# Altium integrated library Infineon_Microcontroller.IntLib: 721 symbols (part 9 of 66)
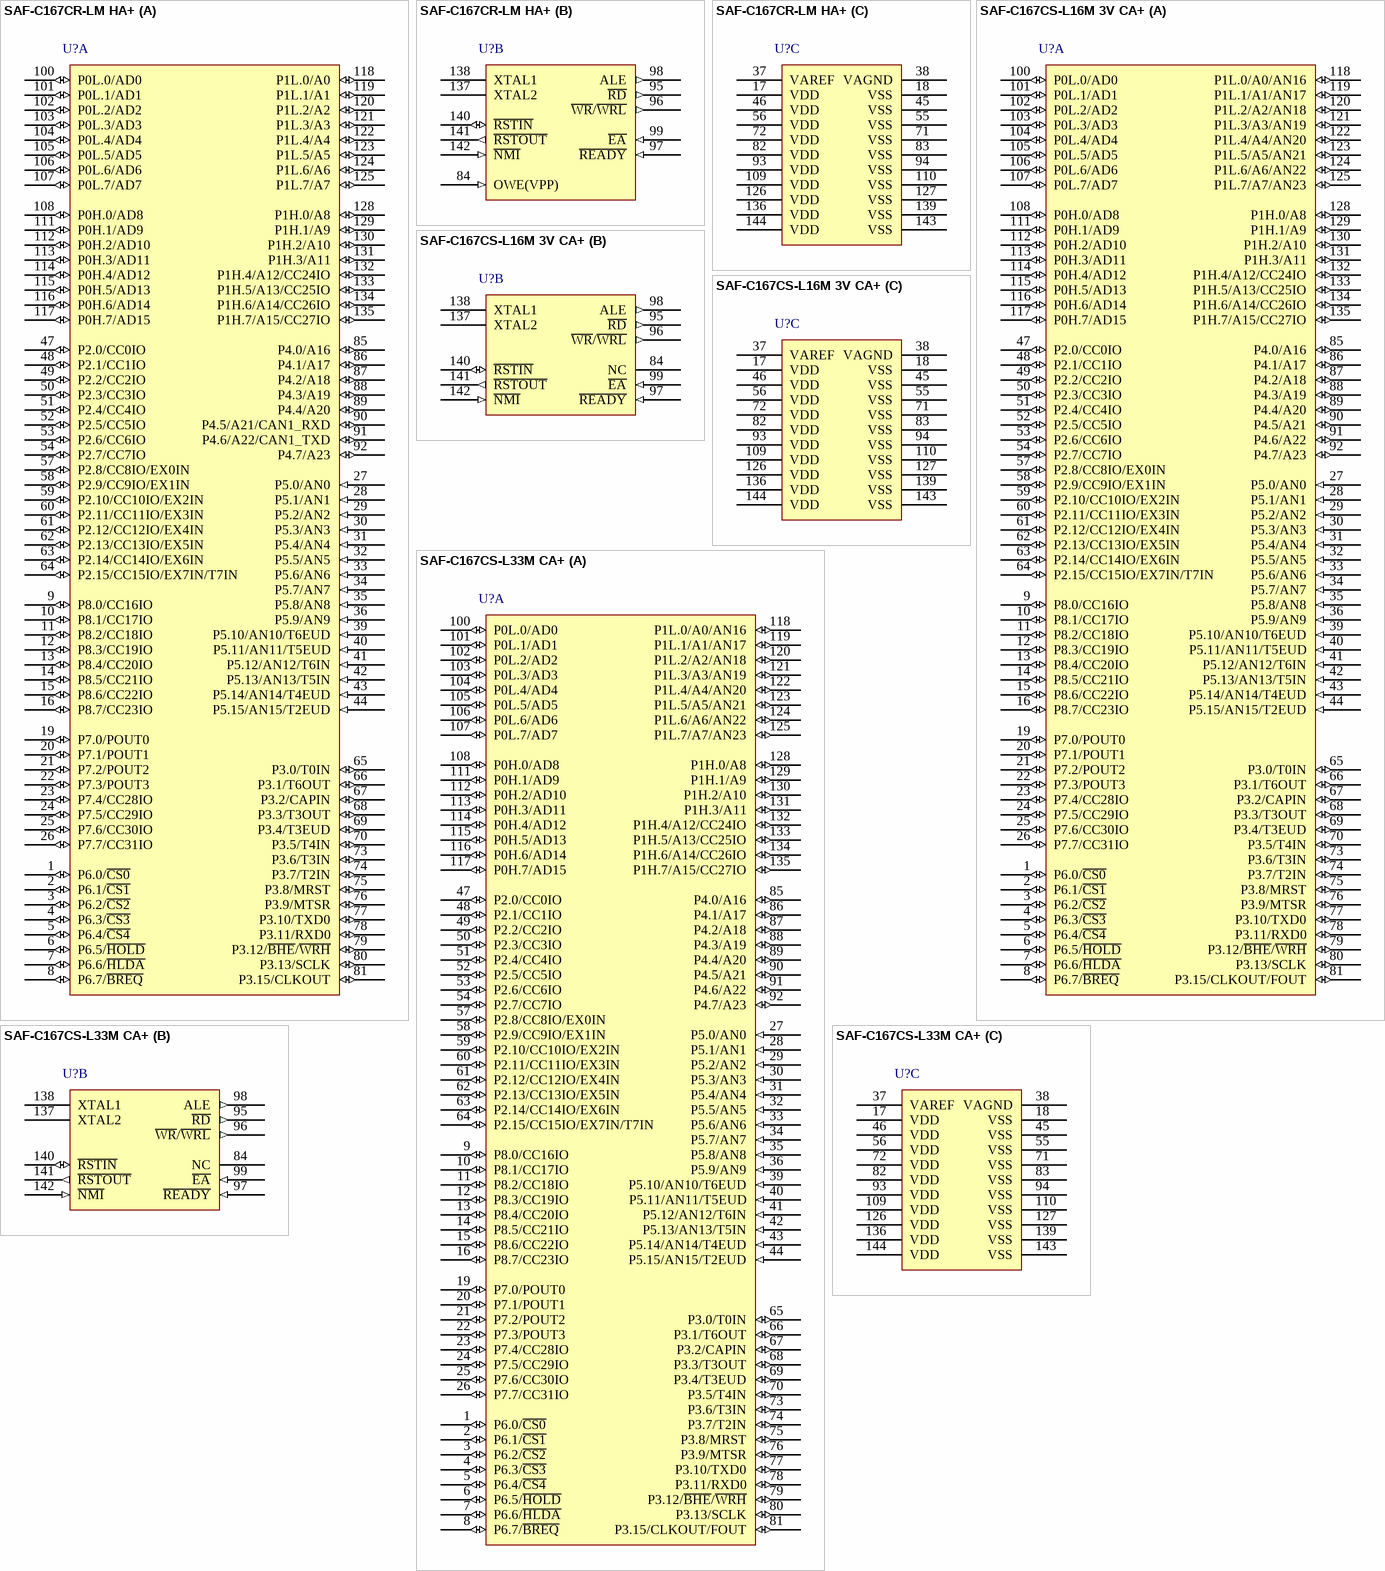
[diagram p126: symbols SAF-C167CR-LM HA+ to SAF-C167CS-L33M CA+]

## SAF-C167CS-L33M CA+
designator U?
33 MHz C166 MCU without Program Memory, 11 KByte SRAM, 5 V, -40 to 85 degC, PG-MQFP-144, Reel, Green; Manufacturer: Infineon; PartNumber: SAF-C167CS-L33M CA+; A / D input lines (incl. FADC): 24; CAN Nodes: 2; Digital I/O Lines: 111; DMA Channels: 0; DSP functionality (e.g MDU/MAC): TRUE; I/O Operation Voltages: 5 V; Instruction width [bits]: 16; Max Clock Frequency: 33 MHz; Number of ADC Modules: 1; Power Modes: 3; Real Time Clock (RTC): FALSE; Timed I/O Pins (PWM-Ch,CAPCOM): 36; Timer / Counter: 9; Type of Memory: ROM less; Type of Serial I/O Interfaces: USART(1), SSC(1); DatasheetVersion: Rev. 2.2; PackageVersion: V2.2, 08/2001; PackageReference: P-MQFP-144-6; PackageDescription: 144-Pin Plastic Metric Quad Flat Package, Body 28 x 28 mm, Pitch 0.65 mm; Supplier 1: Digi-Key; Supplier Part Number 1: SAF-C167CS-L33M CA+-ND; External Bus interface: TRUE; Green: TRUE; Halogen-free: TRUE; Oscillator Watchdog: TRUE; Packing: Reel; Serial I/O Interfaces: 2; SRAM (incl. Cache): 11 KByte; Watchdog Timer: TRUE; Mounting Technology: Surface Mount; ComponentLink1Description: Manufacturer URL; ComponentLink1URL: http://www.infineon.com/; ComponentLink2Description: Datasheet; ComponentLink2URL: http://www.infineon.com/dgdl/c167cs4r_ds_v2.2_2001_08.pdf?folderId=db3a304412b407950112b408e8c90004&fileId=db3a304412b407950112b435a34b634c; ComponentLink3Description: Package Specification; ComponentLink3URL: http://www.infineon.com/dgdl/c167cs4r_ds_v2.2_2001_08.pdf?folderId=db3a304412b407950112b408e8c90004&fileId=db3a304412b407950112b435a34b634c
footprint INF-P-MQFP-144-6_N (QFP, 144-Leads, Body 28x28mm, Pitch 0.65mm, IPC Medium Density)
footprint INF-P-MQFP-144-6_L (QFP, 144-Leads, Body 28x28mm, Pitch 0.65mm, IPC High Density)
footprint INF-P-MQFP-144-6_M (QFP, 144-Leads, Body 28x28mm, Pitch 0.65mm, IPC Low Density)
part A pins: 1 P6.0/~{CS0} (io), 2 P6.1/~{CS1} (io), 3 P6.2/~{CS2} (io), 4 P6.3/~{CS3} (io), 5 P6.4/~{CS4} (io), 6 P6.5/~{HOLD} (io), 7 P6.6/~{HLDA} (io), 8 P6.7/~{BREQ} (io), 9 P8.0/CC16IO (io), 10 P8.1/CC17IO (io), 11 P8.2/CC18IO (io), 12 P8.3/CC19IO (io), 13 P8.4/CC20IO (io), 14 P8.5/CC21IO (io), 15 P8.6/CC22IO (io), 16 P8.7/CC23IO (io), 19 P7.0/POUT0 (io), 20 P7.1/POUT1 (io), 21 P7.2/POUT2 (io), 22 P7.3/POUT3 (io), 23 P7.4/CC28IO (io), 24 P7.5/CC29IO (io), 25 P7.6/CC30IO (io), 26 P7.7/CC31IO (io), 27 P5.0/AN0 (in), 28 P5.1/AN1 (in), 29 P5.2/AN2 (in), 30 P5.3/AN3 (in), 31 P5.4/AN4 (in), 32 P5.5/AN5 (in), 33 P5.6/AN6 (in), 34 P5.7/AN7 (in), 35 P5.8/AN8 (in), 36 P5.9/AN9 (in), 39 P5.10/AN10/T6EUD (in), 40 P5.11/AN11/T5EUD (in), 41 P5.12/AN12/T6IN (in), 42 P5.13/AN13/T5IN (in), 43 P5.14/AN14/T4EUD (in), 44 P5.15/AN15/T2EUD (in), 47 P2.0/CC0IO (io), 48 P2.1/CC1IO (io), 49 P2.2/CC2IO (io), 50 P2.3/CC3IO (io), 51 P2.4/CC4IO (io), 52 P2.5/CC5IO (io), 53 P2.6/CC6IO (io), 54 P2.7/CC7IO (io), 57 P2.8/CC8IO/EX0IN (io), 58 P2.9/CC9IO/EX1IN (io), 59 P2.10/CC10IO/EX2IN (io), 60 P2.11/CC11IO/EX3IN (io), 61 P2.12/CC12IO/EX4IN (io), 62 P2.13/CC13IO/EX5IN (io), 63 P2.14/CC14IO/EX6IN (io), 64 P2.15/CC15IO/EX7IN/T7IN (io), 65 P3.0/T0IN (io), 66 P3.1/T6OUT (io), 67 P3.2/CAPIN (io), 68 P3.3/T3OUT (io), 69 P3.4/T3EUD (io), 70 P3.5/T4IN (io), 73 P3.6/T3IN (io), 74 P3.7/T2IN (io), 75 P3.8/MRST (io), 76 P3.9/MTSR (io), 77 P3.10/TXD0 (io), 78 P3.11/RXD0 (io), 79 P3.12/~{BHE}/~{WRH} (io), 80 P3.13/SCLK (io), 81 P3.15/CLKOUT/FOUT (io), 85 P4.0/A16 (io), 86 P4.1/A17 (io), 87 P4.2/A18 (io), 88 P4.3/A19 (io), 89 P4.4/A20 (io), 90 P4.5/A21 (io), 91 P4.6/A22 (io), 92 P4.7/A23 (io), 100 P0L.0/AD0 (io), 101 P0L.1/AD1 (io), 102 P0L.2/AD2 (io), 103 P0L.3/AD3 (io), 104 P0L.4/AD4 (io), 105 P0L.5/AD5 (io), 106 P0L.6/AD6 (io), 107 P0L.7/AD7 (io), 108 P0H.0/AD8 (io), 111 P0H.1/AD9 (io), 112 P0H.2/AD10 (io), 113 P0H.3/AD11 (io), 114 P0H.4/AD12 (io), 115 P0H.5/AD13 (io), 116 P0H.6/AD14 (io), 117 P0H.7/AD15 (io), 118 P1L.0/A0/AN16 (io), 119 P1L.1/A1/AN17 (io), 120 P1L.2/A2/AN18 (io), 121 P1L.3/A3/AN19 (io), 122 P1L.4/A4/AN20 (io), 123 P1L.5/A5/AN21 (io), 124 P1L.6/A6/AN22 (io), 125 P1L.7/A7/AN23 (io), 128 P1H.0/A8 (io), 129 P1H.1/A9 (io), 130 P1H.2/A10 (io), 131 P1H.3/A11 (io), 132 P1H.4/A12/CC24IO (io), 133 P1H.5/A13/CC25IO (io), 134 P1H.6/A14/CC26IO (io), 135 P1H.7/A15/CC27IO (io)
part B pins: 84 NC "This pin is not connected in the C167CS. No connection to the PCB is required.", 95 ~{RD} (out) "External Memory Read Strobe. R\D\ is activated for every external instruction or data read access.", 96 ~{WR}/~{WRL} (out) "External Memory Write Strobe. In W\R\-mode this pin is activated for every external data write access. In W\R\L\-mode this pin is activated for low byte data write accesses on a 16-bit bus, and for every data write access on (See Datasheet)", 97 ~{READY} (in) "Ready Input. When the Ready function is enabled, a high level at this pin during an external memory access will force the insertion of memory cycle time waitstates until the pin returns to a low level. An internal pullup (See Datasheet)", 98 ALE (out) "Address Latch Enable Output. Can be used for latching the address into external memory or an address latch in the multiplexed bus modes.", 99 ~{EA} (in) "External Access Enable pin. A low level at this pin during and after Reset forces the C167CS to begin instruction execution out of external memory. A high level forces execution out of the internal program memory. (See Datasheet)", 137 XTAL2 "Output of the oscillator amplifier circuit.", 138 XTAL1 "Input to the oscillator amplifier and input to the internal clock generator", 140 ~{RSTIN} (io) "Reset Input with Schmitt-Trigger characteristics. A low level at this pin while the oscillator is running resets the C167CS. An internal pullup resistor permits power-on reset using only a capacitor connected to VSS. A spike (See Datasheet)", 141 ~{RSTOUT} (out) "Internal Reset Indication Output. This pin is set to a low level when the part is executing either a hardware-, a software- or a watchdog timer reset. R\S\T\O\U\T\ remains low until the EINIT (end of initialization) (See Datasheet)", 142 ~{NMI} (in) "Non-Maskable Interrupt Input. A high to low transition at this pin causes the CPU to vector to the NMI trap routine. When the PWRDN (power down) instruction is executed, the N\M\I\ pin must be low in order to force the (See Datasheet)"
part C pins: 17 VDD (power) "Digital Supply Voltage: +5 V during normal operation and idle mode. >=2.5 V during power down mode.", 18 VSS (power) "Digital Ground.", 37 VAREF (power) "Reference voltage for the A/D converter.", 38 VAGND (power) "Reference ground for the A/D converter.", 45 VSS (power) "Digital Ground.", 46 VDD (power) "Digital Supply Voltage: +5 V during normal operation and idle mode. >=2.5 V during power down mode.", 55 VSS (power) "Digital Ground.", 56 VDD (power) "Digital Supply Voltage: +5 V during normal operation and idle mode. >=2.5 V during power down mode.", 71 VSS (power) "Digital Ground.", 72 VDD (power) "Digital Supply Voltage: +5 V during normal operation and idle mode. >=2.5 V during power down mode.", 82 VDD (power) "Digital Supply Voltage: +5 V during normal operation and idle mode. >=2.5 V during power down mode.", 83 VSS (power) "Digital Ground.", 93 VDD (power) "Digital Supply Voltage: +5 V during normal operation and idle mode. >=2.5 V during power down mode.", 94 VSS (power) "Digital Ground.", 109 VDD (power) "Digital Supply Voltage: +5 V during normal operation and idle mode. >=2.5 V during power down mode.", 110 VSS (power) "Digital Ground.", 126 VDD (power) "Digital Supply Voltage: +5 V during normal operation and idle mode. >=2.5 V during power down mode.", 127 VSS (power) "Digital Ground.", 136 VDD (power) "Digital Supply Voltage: +5 V during normal operation and idle mode. >=2.5 V during power down mode.", 139 VSS (power) "Digital Ground.", 143 VSS (power) "Digital Ground.", 144 VDD (power) "Digital Supply Voltage: +5 V during normal operation and idle mode. >=2.5 V during power down mode."

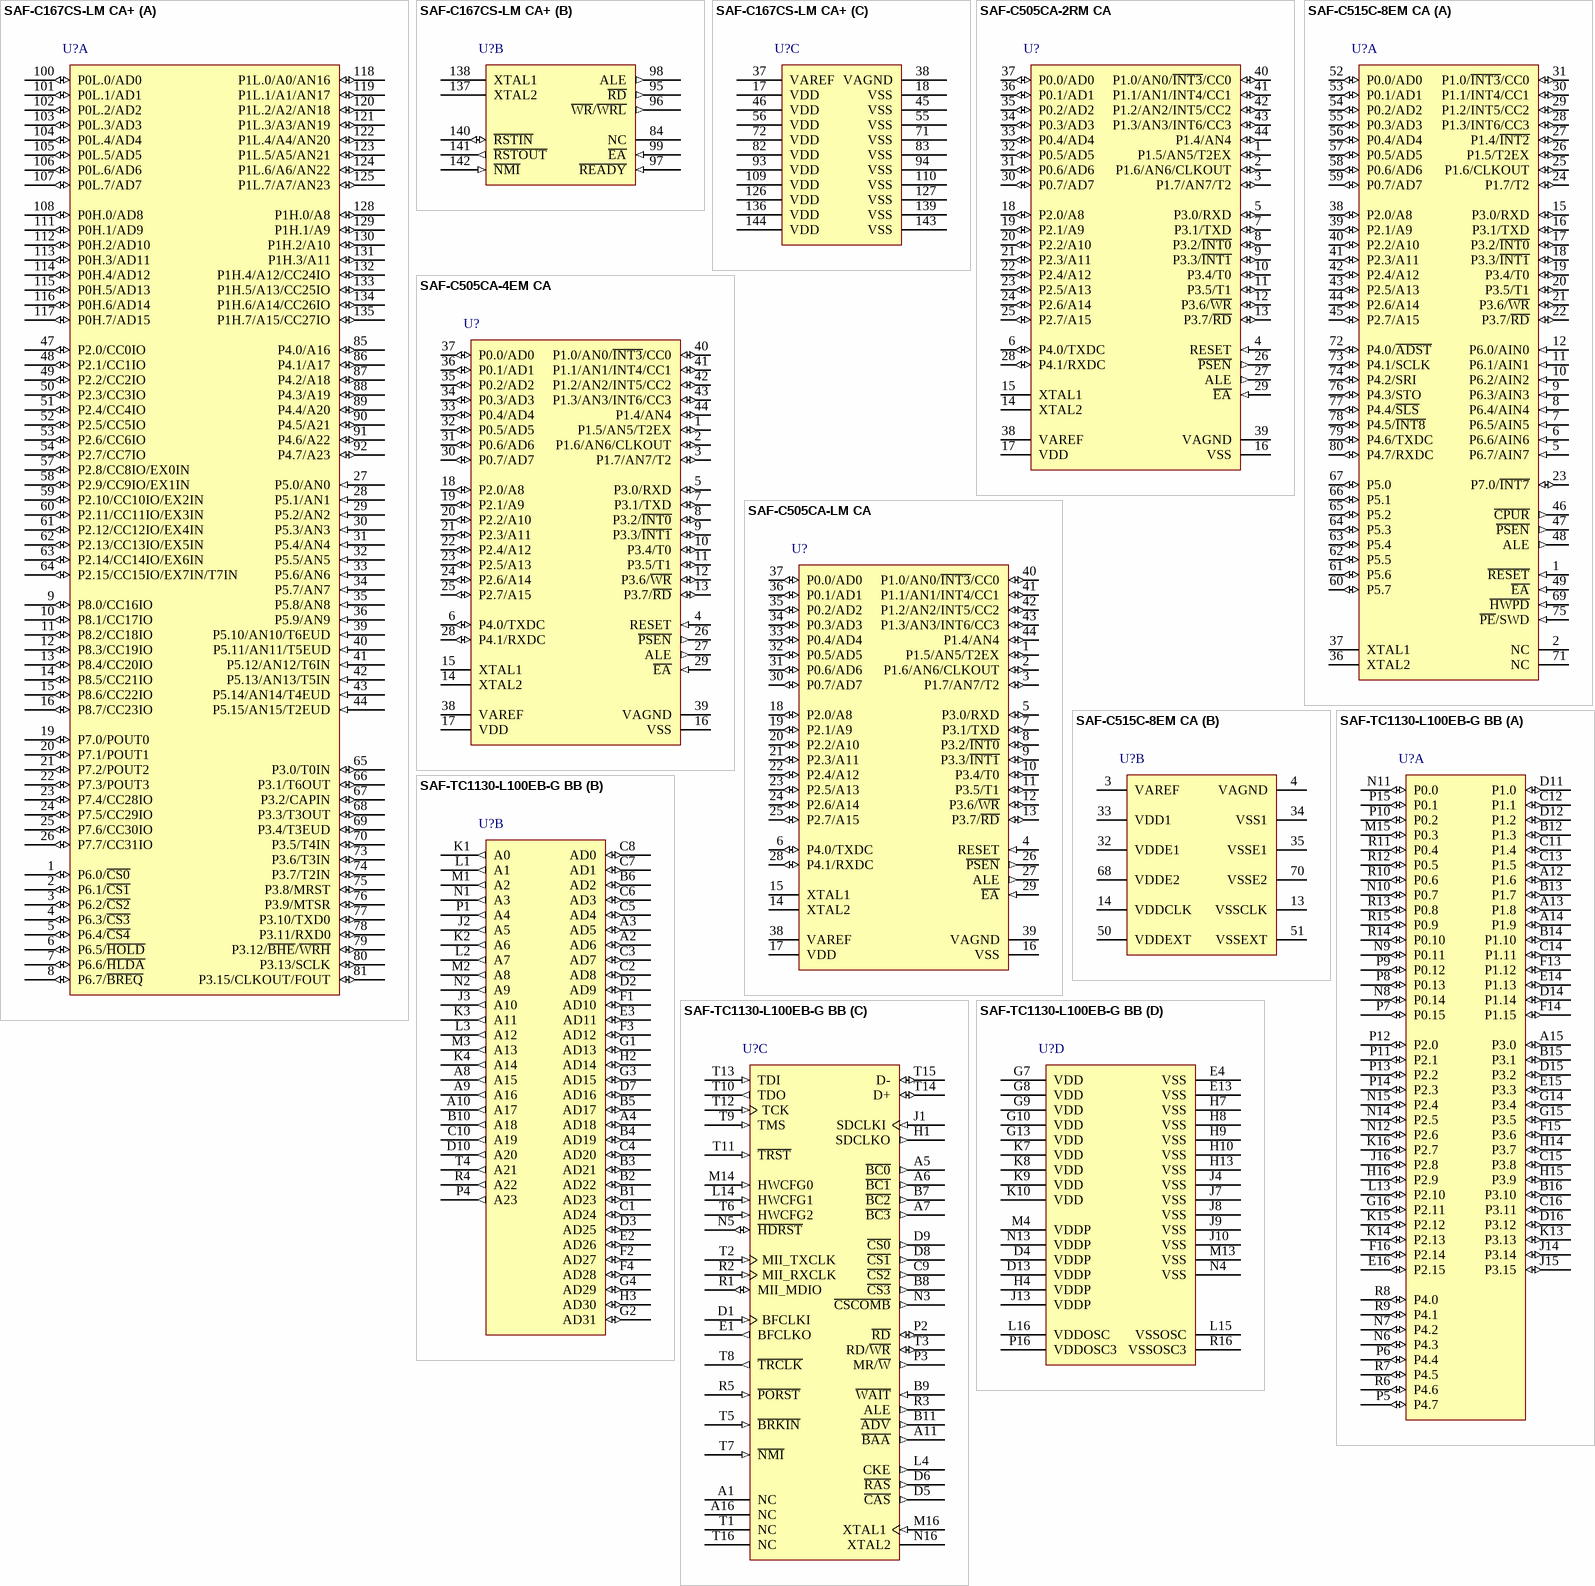
[diagram p13: symbols SAF-C167CS-LM CA+ to SAF-TC1130-L100EB-G BB]

## SAF-C167CS-LM CA+
designator U?
25 MHz C166 MCU without Program Memory, 11 KByte SRAM, 5 V, -40 to 85 degC, PG-MQFP-144, Green; Manufacturer: Infineon; PartNumber: SAF-C167CS-LM CA+; A / D input lines (incl. FADC): 24; CAN Nodes: 2; Digital I/O Lines: 111; DMA Channels: 0; DSP functionality (e.g MDU/MAC): TRUE; I/O Operation Voltages: 5 V; Instruction width [bits]: 16; Max Clock Frequency: 25 MHz; Number of ADC Modules: 1; Power Modes: 3; Real Time Clock (RTC): FALSE; Timed I/O Pins (PWM-Ch,CAPCOM): 36; Timer / Counter: 9; Type of Memory: ROM less; Type of Serial I/O Interfaces: USART(1), SSC(1); DatasheetVersion: Rev. 2.2; PackageVersion: V2.2, 08/2001; PackageReference: P-MQFP-144-6; PackageDescription: 144-Pin Plastic Metric Quad Flat Package, Body 28 x 28 mm, Pitch 0.65 mm; External Bus interface: TRUE; Green: TRUE; Oscillator Watchdog: TRUE; Serial I/O Interfaces: 2; SRAM (incl. Cache): 11 KByte; Watchdog Timer: TRUE; Mounting Technology: Surface Mount; ComponentLink1Description: Manufacturer URL; ComponentLink1URL: http://www.infineon.com/; ComponentLink2Description: Datasheet; ComponentLink2URL: http://www.infineon.com/dgdl/c167cs4r_ds_v2.2_2001_08.pdf?folderId=db3a304412b407950112b408e8c90004&fileId=db3a304412b407950112b435a34b634c; ComponentLink3Description: Package Specification; ComponentLink3URL: http://www.infineon.com/dgdl/c167cs4r_ds_v2.2_2001_08.pdf?folderId=db3a304412b407950112b408e8c90004&fileId=db3a304412b407950112b435a34b634c
footprint INF-P-MQFP-144-6_N (QFP, 144-Leads, Body 28x28mm, Pitch 0.65mm, IPC Medium Density)
footprint INF-P-MQFP-144-6_L (QFP, 144-Leads, Body 28x28mm, Pitch 0.65mm, IPC High Density)
footprint INF-P-MQFP-144-6_M (QFP, 144-Leads, Body 28x28mm, Pitch 0.65mm, IPC Low Density)
part A pins: 1 P6.0/~{CS0} (io), 2 P6.1/~{CS1} (io), 3 P6.2/~{CS2} (io), 4 P6.3/~{CS3} (io), 5 P6.4/~{CS4} (io), 6 P6.5/~{HOLD} (io), 7 P6.6/~{HLDA} (io), 8 P6.7/~{BREQ} (io), 9 P8.0/CC16IO (io), 10 P8.1/CC17IO (io), 11 P8.2/CC18IO (io), 12 P8.3/CC19IO (io), 13 P8.4/CC20IO (io), 14 P8.5/CC21IO (io), 15 P8.6/CC22IO (io), 16 P8.7/CC23IO (io), 19 P7.0/POUT0 (io), 20 P7.1/POUT1 (io), 21 P7.2/POUT2 (io), 22 P7.3/POUT3 (io), 23 P7.4/CC28IO (io), 24 P7.5/CC29IO (io), 25 P7.6/CC30IO (io), 26 P7.7/CC31IO (io), 27 P5.0/AN0 (in), 28 P5.1/AN1 (in), 29 P5.2/AN2 (in), 30 P5.3/AN3 (in), 31 P5.4/AN4 (in), 32 P5.5/AN5 (in), 33 P5.6/AN6 (in), 34 P5.7/AN7 (in), 35 P5.8/AN8 (in), 36 P5.9/AN9 (in), 39 P5.10/AN10/T6EUD (in), 40 P5.11/AN11/T5EUD (in), 41 P5.12/AN12/T6IN (in), 42 P5.13/AN13/T5IN (in), 43 P5.14/AN14/T4EUD (in), 44 P5.15/AN15/T2EUD (in), 47 P2.0/CC0IO (io), 48 P2.1/CC1IO (io), 49 P2.2/CC2IO (io), 50 P2.3/CC3IO (io), 51 P2.4/CC4IO (io), 52 P2.5/CC5IO (io), 53 P2.6/CC6IO (io), 54 P2.7/CC7IO (io), 57 P2.8/CC8IO/EX0IN (io), 58 P2.9/CC9IO/EX1IN (io), 59 P2.10/CC10IO/EX2IN (io), 60 P2.11/CC11IO/EX3IN (io), 61 P2.12/CC12IO/EX4IN (io), 62 P2.13/CC13IO/EX5IN (io), 63 P2.14/CC14IO/EX6IN (io), 64 P2.15/CC15IO/EX7IN/T7IN (io), 65 P3.0/T0IN (io), 66 P3.1/T6OUT (io), 67 P3.2/CAPIN (io), 68 P3.3/T3OUT (io), 69 P3.4/T3EUD (io), 70 P3.5/T4IN (io), 73 P3.6/T3IN (io), 74 P3.7/T2IN (io), 75 P3.8/MRST (io), 76 P3.9/MTSR (io), 77 P3.10/TXD0 (io), 78 P3.11/RXD0 (io), 79 P3.12/~{BHE}/~{WRH} (io), 80 P3.13/SCLK (io), 81 P3.15/CLKOUT/FOUT (io), 85 P4.0/A16 (io), 86 P4.1/A17 (io), 87 P4.2/A18 (io), 88 P4.3/A19 (io), 89 P4.4/A20 (io), 90 P4.5/A21 (io), 91 P4.6/A22 (io), 92 P4.7/A23 (io), 100 P0L.0/AD0 (io), 101 P0L.1/AD1 (io), 102 P0L.2/AD2 (io), 103 P0L.3/AD3 (io), 104 P0L.4/AD4 (io), 105 P0L.5/AD5 (io), 106 P0L.6/AD6 (io), 107 P0L.7/AD7 (io), 108 P0H.0/AD8 (io), 111 P0H.1/AD9 (io), 112 P0H.2/AD10 (io), 113 P0H.3/AD11 (io), 114 P0H.4/AD12 (io), 115 P0H.5/AD13 (io), 116 P0H.6/AD14 (io), 117 P0H.7/AD15 (io), 118 P1L.0/A0/AN16 (io), 119 P1L.1/A1/AN17 (io), 120 P1L.2/A2/AN18 (io), 121 P1L.3/A3/AN19 (io), 122 P1L.4/A4/AN20 (io), 123 P1L.5/A5/AN21 (io), 124 P1L.6/A6/AN22 (io), 125 P1L.7/A7/AN23 (io), 128 P1H.0/A8 (io), 129 P1H.1/A9 (io), 130 P1H.2/A10 (io), 131 P1H.3/A11 (io), 132 P1H.4/A12/CC24IO (io), 133 P1H.5/A13/CC25IO (io), 134 P1H.6/A14/CC26IO (io), 135 P1H.7/A15/CC27IO (io)
part B pins: 84 NC "Oscillator Watchdog Enable. This input enables the oscillator watchdog when high or disables it when low e.g. for testing purposes. An internal pull-up device holds this input high if nothing is driving it. For normal (See Datasheet)", 95 ~{RD} (out) "External Memory Read Strobe. R\D\ is activated for every external instruction or data read access.", 96 ~{WR}/~{WRL} (out) "External Memory Write Strobe. In W\R\-mode this pin is activated for every external data write access. In W\R\L\-mode this pin is activated for low byte data write accesses on a 16-bit bus, and for every data write access on (See Datasheet)", 97 ~{READY} (in) "Ready Input. When the Ready function is enabled, a high level at this pin during an external memory access will force the insertion of memory cycle time waitstates until the pin returns to a low level.An internal pullup (See Datasheet)", 98 ALE (out) "Address Latch Enable Output. Can be used for latching theaddress into external memory or an address latch in themultiplexed bus modes.", 99 ~{EA} (in) "External Access Enable pin", 137 XTAL2 "Output of the oscillator amplifier circuit.", 138 XTAL1 "Input to the oscillator amplifier and input to the internal clock generator", 140 ~{RSTIN} (io) "Reset Input with Schmitt-Trigger characteristics.", 141 ~{RSTOUT} (out) "Internal Reset Indication Output. This pin is set to a low level when the part is executing either a hardware-, a software- or a watchdog timer reset. R\S\T\O\U\T\ remains low until the EINIT (end of initialization) (See Datasheet)", 142 ~{NMI} (in) "Non-Maskable Interrupt Input"
part C pins: 17 VDD (power) "Digital Supply Voltage", 18 VSS (power) "Digital Ground.", 37 VAREF (power) "Reference voltage for the A/D converter.", 38 VAGND (power) "Reference ground for the A/D converter.", 45 VSS (power) "Digital Ground.", 46 VDD (power) "Digital Supply Voltage", 55 VSS (power) "Digital Ground.", 56 VDD (power) "Digital Supply Voltage", 71 VSS (power) "Digital Ground.", 72 VDD (power) "Digital Supply Voltage", 82 VDD (power) "Digital Supply Voltage", 83 VSS (power) "Digital Ground.", 93 VDD (power) "Digital Supply Voltage", 94 VSS (power) "Digital Ground.", 109 VDD (power) "Digital Supply Voltage", 110 VSS (power) "Digital Ground.", 126 VDD (power) "Digital Supply Voltage", 127 VSS (power) "Digital Ground.", 136 VDD (power) "Digital Supply Voltage", 139 VSS (power) "Digital Ground.", 143 VSS (power) "Digital Ground.", 144 VDD (power) "Digital Supply Voltage"

## SAF-C505CA-2RM CA
designator U?
20 MHz C500 MCU with 16 KByte Program Memory, 1.25 KByte SRAM, 5 V, -40 to 85 degC, PG-MQFP-44, Reel; Manufacturer: Infineon; PartNumber: SAF-C505CA-2RM CA; CAN Nodes: 1; Digital I/O Lines: 34; DSP functionality (e.g MDU/MAC): FALSE; I/O Operation Voltages: 5 V; Instruction width [bits]: 8; Max Clock Frequency: 20 MHz; On-chip clock generation: TRUE; Power Modes: 4; Timer / Counter: 3; Type of Memory: ROM; Type of Serial I/O Interfaces: USART(1); PackageVersion: Dec-00; PackageReference: P-MQFP-44-2; PackageDescription: 44-Pin Plastic Metric Quad Flat Package, Body 10 x 10 mm, Pitch 0.8 mm; Halogen-free: available; Number of ADC Modules: 1; On-chip Voltage Regulator: TRUE; Oscillator Watchdog: TRUE; Packing: Reel; Program Memory: 16 KByte; Serial I/O Interfaces: 1; SRAM (incl. Cache): 1.25 KByte; Timed I/O Pins (PWM-Ch,CAPCOM): 4; Watchdog Timer: TRUE; Mounting Technology: Surface Mount; ComponentLink1Description: Manufacturer URL; ComponentLink1URL: http://www.infineon.com/; ComponentLink2Description: Datasheet; ComponentLink2URL: http://www.infineon.com/dgdl/C505DB_1.pdf?folderId=db3a304412b407950112b408e8c90004&fileId=db3a304412b407950112b43796076846; ComponentLink3Description: Package Specification; ComponentLink3URL: http://www.infineon.com/dgdl/C505DB_1.pdf?folderId=db3a304412b407950112b408e8c90004&fileId=db3a304412b407950112b43796076846
footprint INF-P-MQFP-44-2_N (QFP, 44-Leads, Body 10x10mm, Pitch 0.8mm, IPC High Density, IPC Medium Density)
footprint INF-P-MQFP-44-2_L (QFP, 44-Leads, Body 10x10mm, Pitch 0.8mm, IPC High Density)
footprint INF-P-MQFP-44-2_M (QFP, 44-Leads, Body 10x10mm, Pitch 0.8mm, IPC High Density, IPC Low Density)
pins: 1 P1.5/AN5/T2EX (io), 2 P1.6/AN6/CLKOUT (io), 3 P1.7/AN7/T2 (io), 4 RESET (in) "A high level on this pin for two machine cycle while the oscillator is running resets the device. An internal diffused resistor to VSS permits power-on reset using only an external capacitor to VDD.", 5 P3.0/RXD (io), 6 P4.0/TXDC (io), 7 P3.1/TXD (io), 8 P3.2/~{INT0} (io), 9 P3.3/~{INT1} (io), 10 P3.4/T0 (io), 11 P3.5/T1 (io), 12 P3.6/~{WR} (io), 13 P3.7/~{RD} (io), 14 XTAL2 "Output of the inverting oscillator amplifier.", 15 XTAL1 "Input to the inverting oscillator amplifier and input to the internal clock generator circuits. To drive the device from an external clock source, XTAL1 should be driven, while XTAL2 is left unconnected. To operate above a (See Datasheet)", 16 VSS (power) "Ground (0V)", 17 VDD (power) "Power Supply (+5V)", 18 P2.0/A8 (io), 19 P2.1/A9 (io), 20 P2.2/A10 (io), 21 P2.3/A11 (io), 22 P2.4/A12 (io), 23 P2.5/A13 (io), 24 P2.6/A14 (io), 25 P2.7/A15 (io), 26 ~{PSEN} (out) "The P\r\o\g\r\a\m\ \S\t\o\r\e\ \E\n\a\b\l\e\", 27 ALE (out) "The Address Latch Enable", 28 P4.1/RXDC (io), 29 ~{EA} (in) "E\x\t\e\r\n\a\l\ \A\c\c\e\s\s\ \E\n\a\b\l\e\", 30 P0.7/AD7 (io), 31 P0.6/AD6 (io), 32 P0.5/AD5 (io), 33 P0.4/AD4 (io), 34 P0.3/AD3 (io), 35 P0.2/AD2 (io), 36 P0.1/AD1 (io), 37 P0.0/AD0 (io), 38 VAREF (power) "Reference voltage for the A/D converter.", 39 VAGND (power) "Reference ground for the A/D converter.", 40 P1.0/AN0/~{INT3}/CC0 (io), 41 P1.1/AN1/INT4/CC1 (io), 42 P1.2/AN2/INT5/CC2 (io), 43 P1.3/AN3/INT6/CC3 (io), 44 P1.4/AN4 (io)

## SAF-C505CA-4EM CA
designator U?
20 MHz C500 MCU with 32 KByte Program Memory, 1.25 KByte SRAM, 5 V, -40 to 85 degC, PG-MQFP-44, Tray, Green; Manufacturer: Infineon; PartNumber: SAF-C505CA-4EM CA; CAN Nodes: 1; Digital I/O Lines: 34; DSP functionality (e.g MDU/MAC): FALSE; Green: TRUE; I/O Operation Voltages: 5 V; Instruction width [bits]: 8; Max Clock Frequency: 20 MHz; Power Modes: 4; Timer / Counter: 3; Type of Memory: OTP; Type of Serial I/O Interfaces: USART(1); PackageVersion: Dec-00; PackageReference: P-MQFP-44-2; PackageDescription: 44-Pin Plastic Metric Quad Flat Package, Body 10 x 10 mm, Pitch 0.8 mm; Supplier 1: Newark; Supplier Part Number 1: 47W3693; Supplier 2: Farnell; Supplier Part Number 2: 2212032; Supplier 3: Digi-Key; Supplier Part Number 3: SAF-C505CA-4EMCAIN-ND; Halogen-free: TRUE; Number of ADC Modules: 1; On-chip clock generation: TRUE; On-chip Voltage Regulator: TRUE; Oscillator Watchdog: TRUE; Packing: Tray; Program Memory: 32 KByte; Serial I/O Interfaces: 1; SRAM (incl. Cache): 1.25 KByte; Timed I/O Pins (PWM-Ch,CAPCOM): 4; Watchdog Timer: TRUE; Mounting Technology: Surface Mount; ComponentLink1Description: Manufacturer URL; ComponentLink1URL: http://www.infineon.com/; ComponentLink2Description: Datasheet; ComponentLink2URL: http://www.infineon.com/dgdl/C505DB.pdf?folderId=db3a304412b407950112b408e8c90004&fileId=db3a304412b407950112b41a77922aa7; ComponentLink3Description: Package Specification; ComponentLink3URL: http://www.infineon.com/dgdl/C505DB_1.pdf?folderId=db3a304412b407950112b408e8c90004&fileId=db3a304412b407950112b43796076846
footprint INF-P-MQFP-44-2_N (QFP, 44-Leads, Body 10x10mm, Pitch 0.8mm, IPC High Density, IPC Medium Density)
footprint INF-P-MQFP-44-2_L (QFP, 44-Leads, Body 10x10mm, Pitch 0.8mm, IPC High Density)
footprint INF-P-MQFP-44-2_M (QFP, 44-Leads, Body 10x10mm, Pitch 0.8mm, IPC High Density, IPC Low Density)
pins: 1 P1.5/AN5/T2EX (io), 2 P1.6/AN6/CLKOUT (io), 3 P1.7/AN7/T2 (io), 4 RESET (in) "A high level on this pin for two machine cycle while the oscillator is running resets the device. An internal diffused resistor to VSS permits power-on reset using only an external capacitor to VDD.", 5 P3.0/RXD (io), 6 P4.0/TXDC (io), 7 P3.1/TXD (io), 8 P3.2/~{INT0} (io), 9 P3.3/~{INT1} (io), 10 P3.4/T0 (io), 11 P3.5/T1 (io), 12 P3.6/~{WR} (io), 13 P3.7/~{RD} (io), 14 XTAL2 "Output of the inverting oscillator amplifier.", 15 XTAL1 "Input to the inverting oscillator amplifier and input to the internal clock generator circuits. To drive the device from an external clock source, XTAL1 should be driven, while XTAL2 is left unconnected. To operate above a (See Datasheet)", 16 VSS (power) "Ground (0V)", 17 VDD (power) "Power Supply (+5V)", 18 P2.0/A8 (io), 19 P2.1/A9 (io), 20 P2.2/A10 (io), 21 P2.3/A11 (io), 22 P2.4/A12 (io), 23 P2.5/A13 (io), 24 P2.6/A14 (io), 25 P2.7/A15 (io), 26 ~{PSEN} (out) "The P\r\o\g\r\a\m\ \S\t\o\r\e\ \E\n\a\b\l\e\", 27 ALE (out) "The Address Latch Enable", 28 P4.1/RXDC (io), 29 ~{EA} (in) "E\x\t\e\r\n\a\l\ \A\c\c\e\s\s\ \E\n\a\b\l\e\", 30 P0.7/AD7 (io), 31 P0.6/AD6 (io), 32 P0.5/AD5 (io), 33 P0.4/AD4 (io), 34 P0.3/AD3 (io), 35 P0.2/AD2 (io), 36 P0.1/AD1 (io), 37 P0.0/AD0 (io), 38 VAREF (power) "Reference voltage for the A/D converter.", 39 VAGND (power) "Reference ground for the A/D converter.", 40 P1.0/AN0/~{INT3}/CC0 (io), 41 P1.1/AN1/INT4/CC1 (io), 42 P1.2/AN2/INT5/CC2 (io), 43 P1.3/AN3/INT6/CC3 (io), 44 P1.4/AN4 (io)

## SAF-C505CA-LM CA
designator U?
20 MHz C500 MCU without  Program Memory, 1.25 KByte SRAM, 5 V, -40 to 85 degC, PG-MQFP-44, Reel, Green; Manufacturer: Infineon; PartNumber: SAF-C505CA-LM CA; CAN Nodes: 1; Digital I/O Lines: 34; DSP functionality (e.g MDU/MAC): FALSE; Green: TRUE; I/O Operation Voltages: 5 V; Instruction width [bits]: 8; Max Clock Frequency: 20 MHz; Power Modes: 4; Program Memory: 0 KByte; Timer / Counter: 3; Type of Memory: ROM less; Type of Serial I/O Interfaces: USART(1); PackageVersion: Dec-00; PackageReference: P-MQFP-44-2; PackageDescription: 44-Pin Plastic Metric Quad Flat Package, Body 10 x 10 mm, Pitch 0.8 mm; Supplier 1: Newark; Supplier Part Number 1: 47W3692; Supplier 2: Farnell; Supplier Part Number 2: 2212044; Supplier 3: Digi-Key; Supplier Part Number 3: SAF-C505CA-LMCAIN-ND; Halogen-free: TRUE; Number of ADC Modules: 1; On-chip clock generation: TRUE; On-chip Voltage Regulator: TRUE; Oscillator Watchdog: TRUE; Packing: Reel; Serial I/O Interfaces: 1; SRAM (incl. Cache): 1.25 KByte; Timed I/O Pins (PWM-Ch,CAPCOM): 4; Watchdog Timer: TRUE; Mounting Technology: Surface Mount; ComponentLink1Description: Manufacturer URL; ComponentLink1URL: http://www.infineon.com/; ComponentLink2Description: Datasheet; ComponentLink2URL: http://www.infineon.com/dgdl/C505DB_1.pdf?folderId=db3a304412b407950112b408e8c90004&fileId=db3a304412b407950112b43796076846; ComponentLink3Description: Package Specification; ComponentLink3URL: http://www.infineon.com/dgdl/C505DB_1.pdf?folderId=db3a304412b407950112b408e8c90004&fileId=db3a304412b407950112b43796076846
footprint INF-P-MQFP-44-2_N (QFP, 44-Leads, Body 10x10mm, Pitch 0.8mm, IPC High Density, IPC Medium Density)
footprint INF-P-MQFP-44-2_L (QFP, 44-Leads, Body 10x10mm, Pitch 0.8mm, IPC High Density)
footprint INF-P-MQFP-44-2_M (QFP, 44-Leads, Body 10x10mm, Pitch 0.8mm, IPC High Density, IPC Low Density)
pins: 1 P1.5/AN5/T2EX (io), 2 P1.6/AN6/CLKOUT (io), 3 P1.7/AN7/T2 (io), 4 RESET (in) "A high level on this pin for two machine cycle while the oscillator is running resets the device. An internal diffused resistor to VSS permits power-on reset using only an external capacitor to VDD.", 5 P3.0/RXD (io), 6 P4.0/TXDC (io), 7 P3.1/TXD (io), 8 P3.2/~{INT0} (io), 9 P3.3/~{INT1} (io), 10 P3.4/T0 (io), 11 P3.5/T1 (io), 12 P3.6/~{WR} (io), 13 P3.7/~{RD} (io), 14 XTAL2 "Output of the inverting oscillator amplifier.", 15 XTAL1 "Input to the inverting oscillator amplifier and input to the internal clock generator circuits. To drive the device from an external clock source, XTAL1 should be driven, while XTAL2 is left unconnected. To operate above a (See Datasheet)", 16 VSS (power) "Ground (0V)", 17 VDD (power) "Power Supply (+5V)", 18 P2.0/A8 (io), 19 P2.1/A9 (io), 20 P2.2/A10 (io), 21 P2.3/A11 (io), 22 P2.4/A12 (io), 23 P2.5/A13 (io), 24 P2.6/A14 (io), 25 P2.7/A15 (io), 26 ~{PSEN} (out) "The P\r\o\g\r\a\m\ \S\t\o\r\e\ \E\n\a\b\l\e\", 27 ALE (out) "The Address Latch Enable", 28 P4.1/RXDC (io), 29 ~{EA} (in) "E\x\t\e\r\n\a\l\ \A\c\c\e\s\s\ \E\n\a\b\l\e\", 30 P0.7/AD7 (io), 31 P0.6/AD6 (io), 32 P0.5/AD5 (io), 33 P0.4/AD4 (io), 34 P0.3/AD3 (io), 35 P0.2/AD2 (io), 36 P0.1/AD1 (io), 37 P0.0/AD0 (io), 38 VAREF (power) "Reference voltage for the A/D converter.", 39 VAGND (power) "Reference ground for the A/D converter.", 40 P1.0/AN0/~{INT3}/CC0 (io), 41 P1.1/AN1/INT4/CC1 (io), 42 P1.2/AN2/INT5/CC2 (io), 43 P1.3/AN3/INT6/CC3 (io), 44 P1.4/AN4 (io)

## SAF-C515C-8EM CA
designator U?
10 MHz C500 MCU with 64 KByte Program Memory, 2.25 KByte SRAM, 5 V, -40 to 85 degC, PG-MQFP-80, Reel, Green; Manufacturer: Infineon; PartNumber: SAF-C515C-8EM CA; CAN Nodes: 1; Digital I/O Lines: 49; DSP functionality (e.g MDU/MAC): TRUE; I/O Operation Voltages: 5 V; Instruction width [bits]: 8; Max Clock Frequency: 10 MHz; On-chip clock generation: FALSE; Power Modes: 4; Serial I/O Interfaces: 2; Timer / Counter: 3; Type of Memory: OTP; Type of Serial I/O Interfaces: USART(1), SSC(1); PackageVersion: V2.0, 01/2001; PackageReference: P-MQFP-80-1; PackageDescription: 80-Pin Plastic Metric Quad Flat Package, Body 14 x 14 mm, Pitch 0.65 mm; Supplier 1: Digi-Key; Supplier Part Number 1: SAF-C515C-8EMCAIN-ND; Green: TRUE; Halogen-free: TRUE; Number of ADC Modules: 1; On-chip Voltage Regulator: TRUE; Oscillator Watchdog: TRUE; Packing: Reel; Program Memory: 64 KByte; SRAM (incl. Cache): 2.25 KByte; Timed I/O Pins (PWM-Ch,CAPCOM): 4; Watchdog Timer: TRUE; Mounting Technology: Surface Mount; ComponentLink1Description: Manufacturer URL; ComponentLink1URL: http://www.infineon.com/; ComponentLink2Description: Datasheet; ComponentLink2URL: http://www.infineon.com/dgdl/c515_ds_0203_1.pdf?folderId=db3a304412b407950112b408e8c90004&fileId=db3a304412b407950112b43613d76467; ComponentLink3Description: Package Specification; ComponentLink3URL: http://www.infineon.com/dgdl/c161ko_ds_v20_2001_01.pdf?folderId=db3a304412b407950112b43a44b56fc2&fileId=db3a304412b407950112b43a45456fc3
footprint INF-P-MQFP-80-1_N (QFP, 80-Leads, Body 14x14mm, Pitch 0.65mm, IPC Medium Density)
footprint INF-P-MQFP-80-1_L (QFP, 80-Leads, Body 14x14mm, Pitch 0.65mm, IPC High Density)
footprint INF-P-MQFP-80-1_M (QFP, 80-Leads, Body 14x14mm, Pitch 0.65mm, IPC Low Density)
part A pins: 1 ~{RESET} (in) "A low level on this pin for the duration of two machine cycles while the oscillator is running resets the C515C. A small internal pullup resistor permits power-on reset using only a capacitor connected to VSS.", 2 NC "Not connected", 5 P6.7/AIN7 (in), 6 P6.6/AIN6 (in), 7 P6.5/AIN5 (in), 8 P6.4/AIN4 (in), 9 P6.3/AIN3 (in), 10 P6.2/AIN2 (in), 11 P6.1/AIN1 (in), 12 P6.0/AIN0 (in), 15 P3.0/RXD (io), 16 P3.1/TXD (io), 17 P3.2/~{INT0} (io), 18 P3.3/~{INT1} (io), 19 P3.4/T0 (io), 20 P3.5/T1 (io), 21 P3.6/~{WR} (io), 22 P3.7/~{RD} (io), 23 P7.0/~{INT7} (io), 24 P1.7/T2 (io), 25 P1.6/CLKOUT (io), 26 P1.5/T2EX (io), 27 P1.4/~{INT2} (io), 28 P1.3/INT6/CC3 (io), 29 P1.2/INT5/CC2 (io), 30 P1.1/INT4/CC1 (io), 31 P1.0/~{INT3}/CC0 (io), 36 XTAL2 "Input to the inverting oscillator amplifier and input to the internal clock generator circuits. To drive the device from an external clock source, XTAL2 should be driven, while XTAL1 is left unconnected. Minimum and maximum (See Datasheet)", 37 XTAL1 "Output of the inverting oscillator amplifier.", 38 P2.0/A8 (io), 39 P2.1/A9 (io), 40 P2.2/A10 (io), 41 P2.3/A11 (io), 42 P2.4/A12 (io), 43 P2.5/A13 (io), 44 P2.6/A14 (io), 45 P2.7/A15 (io), 46 ~{CPUR} (out) "CPU Running Condition", 47 ~{PSEN} (out) "The P\r\o\g\r\a\m\ \S\t\o\r\e\ \E\n\a\b\l\e\", 48 ALE (out) "The Address Latch Enable", 49 ~{EA} (in) "E\x\t\e\r\n\a\l\ \A\c\c\e\s\s\ \E\n\a\b\l\e\", 52 P0.0/AD0 (io), 53 P0.1/AD1 (io), 54 P0.2/AD2 (io), 55 P0.3/AD3 (io), 56 P0.4/AD4 (io), 57 P0.5/AD5 (io), 58 P0.6/AD6 (io), 59 P0.7/AD7 (io), 60 P5.7 (io) "Port 5 is an 8-bit quasi-bidirectional I/O port with internal pullup resistors.", 61 P5.6 (io) "Port 5 is an 8-bit quasi-bidirectional I/O port with internal pullup resistors.", 62 P5.5 (io) "Port 5 is an 8-bit quasi-bidirectional I/O port with internal pullup resistors.", 63 P5.4 (io) "Port 5 is an 8-bit quasi-bidirectional I/O port with internal pullup resistors.", 64 P5.3 (io) "Port 5 is an 8-bit quasi-bidirectional I/O port with internal pullup resistors.", 65 P5.2 (io) "Port 5 is an 8-bit quasi-bidirectional I/O port with internal pullup resistors.", 66 P5.1 (io) "Port 5 is an 8-bit quasi-bidirectional I/O port with internal pullup resistors.", 67 P5.0 (io) "Port 5 is an 8-bit quasi-bidirectional I/O port with internal pullup resistors.", 69 ~{HWPD} (in) "H\a\r\d\w\a\r\e\ \P\o\w\e\r\ \D\o\w\n\", 71 NC "Not connected", 72 P4.0/~{ADST} (io), 73 P4.1/SCLK (io), 74 P4.2/SRI (io), 75 ~{PE}/SWD (in), 76 P4.3/STO (io), 77 P4.4/~{SLS} (io), 78 P4.5/~{INT8} (io), 79 P4.6/TXDC (io), 80 P4.7/RXDC (io)
part B pins: 3 VAREF (power) "Reference voltage for the A/D converter", 4 VAGND (power) "Reference ground for the A/D converter", 13 VSSCLK (power) "Ground (0 V) for on-chip oscillator", 14 VDDCLK (power) "Supply voltage for on-chip oscillator", 32 VDDE1 (power) "Supply voltage for I/O ports", 33 VDD1 (power) "Supply voltage for internal logic", 34 VSS1 (power) "Ground (0 V) for internal logic", 35 VSSE1 (power) "Ground (0 V) for I/O ports", 50 VDDEXT (power) "Supply voltage for external access pins", 51 VSSEXT (power) "Ground (0 V) for external access pins", 68 VDDE2 (power) "Supply voltage for I/O ports", 70 VSSE2 (power) "Ground (0 V) for I/O ports"

## SAF-TC1130-L100EB-G BB
designator U?
100 MHz TriCore MCU with 32 KByte Program Memory, 144 KByte SRAM, -40 to 85 degC, P-LBGA-208-2, Green; Manufacturer: Infineon; PartNumber: SAF-TC1130-L100EB-G BB; CAN Nodes: 4; Green: TRUE; Max Clock Frequency: 100 MHz; Packing: Tray; DatasheetVersion: Rev. 1.1; PackageVersion: Dec-08; PackageReference: P-LBGA-208-2; PackageDescription: 208-Ball Plastic Low Ball Grid Array Package, 17 x 17 mm Body, 1 mm Pitch; Supplier 1: Digi-Key; Supplier Part Number 1: SAF-TC1130-L100EB-GBBINTR-ND; Supplier 2: Digi-Key; Supplier Part Number 2: SAF-TC1130-L100EB-GBBINCT-ND; Halogen-free: FALSE; SRAM (incl. Cache): 144 KByte; Mounting Technology: Surface Mount; ComponentLink1Description: Manufacturer URL; ComponentLink1URL: http://www.infineon.com/; ComponentLink2Description: Datasheet; ComponentLink2URL: http://www.infineon.com/dgdl/TC1130_DS_V1+1.pdf?folderId=db3a304412b407950112b409ae7c0343&fileId=db3a304412b407950112b437cb8d68df; ComponentLink3Description: Package Specification; ComponentLink3URL: http://www.infineon.com/dgdl/TC1130_DS_V1+1.pdf?folderId=db3a304412b407950112b409ae7c0343&fileId=db3a304412b407950112b437cb8d68df
footprint INF-P-LBGA-208-2 (BGA, 208-Balls, Body 17x17mm, Pitch 1mm)
part A pins: A12 P1.6 (io), A13 P1.8 (io), A14 P1.9 (io), A15 P3.0 (io), B12 P1.3 (io), B13 P1.7 (io), B14 P1.10 (io), B15 P3.1 (io), B16 P3.10 (io), C11 P1.4 (io), C12 P1.1 (io), C13 P1.5 (io), C14 P1.11 (io), C15 P3.8 (io), C16 P3.11 (io), D11 P1.0 (io), D12 P1.2 (io), D14 P1.14 (io), D15 P3.2 (io), D16 P3.12 (io), E14 P1.13 (io), E15 P3.3 (io), E16 P2.15 (io), F13 P1.12 (io), F14 P1.15 (io), F15 P3.6 (io), F16 P2.14 (io), G14 P3.4 (io), G15 P3.5 (io), G16 P2.11 (io), H14 P3.7 (io), H15 P3.9 (io), H16 P2.9 (io), J14 P3.14 (io), J15 P3.15 (io), J16 P2.8 (io), K13 P3.13 (io), K14 P2.13 (io), K15 P2.12 (io), K16 P2.7 (io), L13 P2.10 (io), M15 P0.3 (io), N6 P4.3 (io), N7 P4.2 (io), N8 P0.14 (io), N9 P0.11 (io), N10 P0.7 (io), N11 P0.0 (io), N12 P2.6 (io), N14 P2.5 (io), N15 P2.4 (io), P5 P4.7 (io), P6 P4.4 (io), P7 P0.15 (io), P8 P0.13 (io), P9 P0.12 (io), P10 P0.2 (io), P11 P2.1 (io), P12 P2.0 (io), P13 P2.2 (io), P14 P2.3 (io), P15 P0.1 (io), R6 P4.6 (io), R7 P4.5 (io), R8 P4.0 (io), R9 P4.1 (io), R10 P0.6 (io), R11 P0.4 (io), R12 P0.5 (io), R13 P0.8 (io), R14 P0.10 (io), R15 P0.9 (io)
part B pins: A2 AD6 (io) "EBU Address/Data Bus Line 6", A3 AD5 (io) "EBU Address/Data Bus Line 5", A4 AD18 (io) "EBU Address/Data Bus Line 18", A8 A15 (out) "EBU Address Bus Line 15", A9 A16 (out) "EBU Address Bus Line 16", A10 A17 (out) "EBU Address Bus Line 17", B1 AD23 (io) "EBU Address/Data Bus Line 23", B2 AD22 (io) "EBU Address/Data Bus Line 22", B3 AD21 (io) "EBU Address/Data Bus Line 21", B4 AD19 (io) "EBU Address/Data Bus Line 19", B5 AD17 (io) "EBU Address/Data Bus Line 17", B6 AD2 (io) "EBU Address/Data Bus Line 2", B10 A18 (out) "EBU Address Bus Line 18", C1 AD24 (io) "EBU Address/Data Bus Line 24", C2 AD8 (io) "EBU Address/Data Bus Line 8", C3 AD7 (io) "EBU Address/Data Bus Line 7", C4 AD20 (io) "EBU Address/Data Bus Line 20", C5 AD4 (io) "EBU Address/Data Bus Line 4", C6 AD3 (io) "EBU Address/Data Bus Line 3", C7 AD1 (io) "EBU Address/Data Bus Line 1", C8 AD0 (io) "EBU Address/Data Bus Line 0", C10 A19 (out) "EBU Address Bus Line 19", D2 AD9 (io) "EBU Address/Data Bus Line 9", D3 AD25 (io) "EBU Address/Data Bus Line 25", D7 AD16 (io) "EBU Address/Data Bus Line 16", D10 A20 (out) "EBU Address Bus Line 20", E2 AD26 (io) "EBU Address/Data Bus Line 26", E3 AD11 (io) "EBU Address/Data Bus Line 11", F1 AD10 (io) "EBU Address/Data Bus Line 10", F2 AD27 (io) "EBU Address/Data Bus Line 27", F3 AD12 (io) "EBU Address/Data Bus Line 12", F4 AD28 (io) "EBU Address/Data Bus Line 28", G1 AD13 (io) "EBU Address/Data Bus Line 13", G2 AD31 (io) "EBU Address/Data Bus Line 31", G3 AD15 (io) "EBU Address/Data Bus Line 15", G4 AD29 (io) "EBU Address/Data Bus Line 29", H2 AD14 (io) "EBU Address/Data Bus Line 14", H3 AD30 (io) "EBU Address/Data Bus Line 30", J2 A5 (out) "EBU Address Bus Line 5", J3 A10 (out) "EBU Address Bus Line 10", K1 A0 (out) "EBU Address Bus Line 0", K2 A6 (out) "EBU Address Bus Line 6", K3 A11 (out) "EBU Address Bus Line 11", K4 A14 (out) "EBU Address Bus Line 14", L1 A1 (out) "EBU Address Bus Line 1", L2 A7 (out) "EBU Address Bus Line 7", L3 A12 (out) "EBU Address Bus Line 12", M1 A2 (out) "EBU Address Bus Line 2", M2 A8 (out) "EBU Address Bus Line 8", M3 A13 (out) "EBU Address Bus Line 13", N1 A3 (out) "EBU Address Bus Line 3", N2 A9 (out) "EBU Address Bus Line 9", P1 A4 (out) "EBU Address Bus Line 4", P4 A23 (out) "EBU Address Bus Line 23", R4 A22 (out) "EBU Address Bus Line 22", T4 A21 (out) "EBU Address Bus Line 21"
part C pins: A1 NC "Not Connected", A5 ~{BC0} (out) "EBU Byte Control Line 0", A6 ~{BC1} (out) "EBU Byte Control Line 1", A7 ~{BC3} (out) "EBU Byte Control Line 3", A11 ~{BAA} (out) "EBU Burst Address Advance Output For advancing address in a Burst Flash access", A16 NC "Not Connected", B7 ~{BC2} (out) "EBU Byte Control Line 2", B8 ~{CS3} (out) "EBU Chip Select Output Line 3", B9 ~{WAIT} (in) "EBU Wait Control Line", B11 ~{ADV} (out) "EBU Burst Flash Address Valid Output", C9 ~{CS2} (out) "EBU Chip Select Output Line 2", D1 BFCLKI (in) "Burst Flash Clock Input (Clock Feedback)", D5 ~{CAS} (out) "EBU SDRAM Column Address Strobe Output", D6 ~{RAS} (out) "EBU SDRAM Row Address Strobe Output", D8 ~{CS1} (out) "EBU Chip Select Output Line 1", D9 ~{CS0} (out) "EBU Chip Select Output Line 0", E1 BFCLKO (out) "Burst Flash Clock Output Accesses to Burst Flash devices are synchronized to this clock.", H1 SDCLKO (out) "SDRAM Clock Output Accesses to SDRAM devices are synchronized to this clock.", J1 SDCLKI (in) "SDRAM Clock Input (Clock Feedback)", L4 CKE (out) "EBU SDRAM Clock Enable Output", L14 HWCFG1 (in) "Hardware Configuration Inputs", M14 HWCFG0 (in) "Hardware Configuration Inputs", M16 XTAL1 (in) "Oscillator/PLL/Clock Generator Input/Output Pins", N3 ~{CSCOMB} (out) "EBU Chip Select Output for combination function(Overlay Memory and Global)", N5 ~{HDRST} (io) "Hardware Reset Input/Reset Indication Output", N16 XTAL2 "Oscillator/PLL/Clock Generator Input/Output Pins", P2 ~{RD} (io) "EBU Read Control Line Output in master mode Input in slave mode", P3 MR/~{W} (out) "EBU Motorola-style Read/Write Output", R1 MII_MDIO (io) "Ethernet Controller Management Data Input/Output", R2 MII_RXCLK (in) "Ethernet Controller Receive Clock", R3 ALE (out) "EBU Address Latch Enable Output", R5 ~{PORST} (in) "Power-on Reset Input", T1 NC "Not Connected", T2 MII_TXCLK (in) "Ethernet Controller Transmit Clock", T3 RD/~{WR} (io) "EBU Write Control Line Output in master mode Input in slave mode", T5 ~{BRKIN} (in) "OCDS Break Input", T6 HWCFG2 (in) "Hardware Configuration Inputs", T7 ~{NMI} (in) "Non-Maskable Interrupt Input", T8 ~{TRCLK} (out) "Trace Clock for OCDS_L2 Lines", T9 TMS (in) "JTAG Module State Machine Control Input", T10 TDO (out) "JTAG Module Serial Data Output", T11 ~{TRST} (in) "JTAG Module Reset/Enable Input", T12 TCK (in) "JTAG Module Clock Input", T13 TDI (in) "JTAG Module Serial Data Input", T14 D+ (io) "USB D+ Data Line", T15 D- (io) "USB D- Data Line", T16 NC "Not Connected"
part D pins: D4 VDDP (power) "Ports Power Supply (3.3 V)", D13 VDDP (power) "Ports Power Supply (3.3 V)", E4 VSS (power) "Ground", E13 VSS (power) "Ground", G7 VDD (power) "Core and Logic Power Supply (1.5 V)", G8 VDD (power) "Core and Logic Power Supply (1.5 V)", G9 VDD (power) "Core and Logic Power Supply (1.5 V)", G10 VDD (power) "Core and Logic Power Supply (1.5 V)", G13 VDD (power) "Core and Logic Power Supply (1.5 V)", H4 VDDP (power) "Ports Power Supply (3.3 V)", H7 VSS (power) "Ground", H8 VSS (power) "Ground", H9 VSS (power) "Ground", H10 VSS (power) "Ground", H13 VSS (power) "Ground", J4 VSS (power) "Ground", J7 VSS (power) "Ground", J8 VSS (power) "Ground", J9 VSS (power) "Ground", J10 VSS (power) "Ground", J13 VDDP (power) "Ports Power Supply (3.3 V)", K7 VDD (power) "Core and Logic Power Supply (1.5 V)", K8 VDD (power) "Core and Logic Power Supply (1.5 V)", K9 VDD (power) "Core and Logic Power Supply (1.5 V)", K10 VDD (power) "Core and Logic Power Supply (1.5 V)", L15 VSSOSC (power) "Main Oscillator Ground", L16 VDDOSC (power) "Main Oscillator Power Supply (1.5 V)", M4 VDDP (power) "Ports Power Supply (3.3 V)", M13 VSS (power) "Ground", N4 VSS (power) "Ground", N13 VDDP (power) "Ports Power Supply (3.3 V)", P16 VDDOSC3 (power) "Main Oscillator Power Supply (3.3 V)", R16 VSSOSC3 (power) "Main Oscillator Ground"

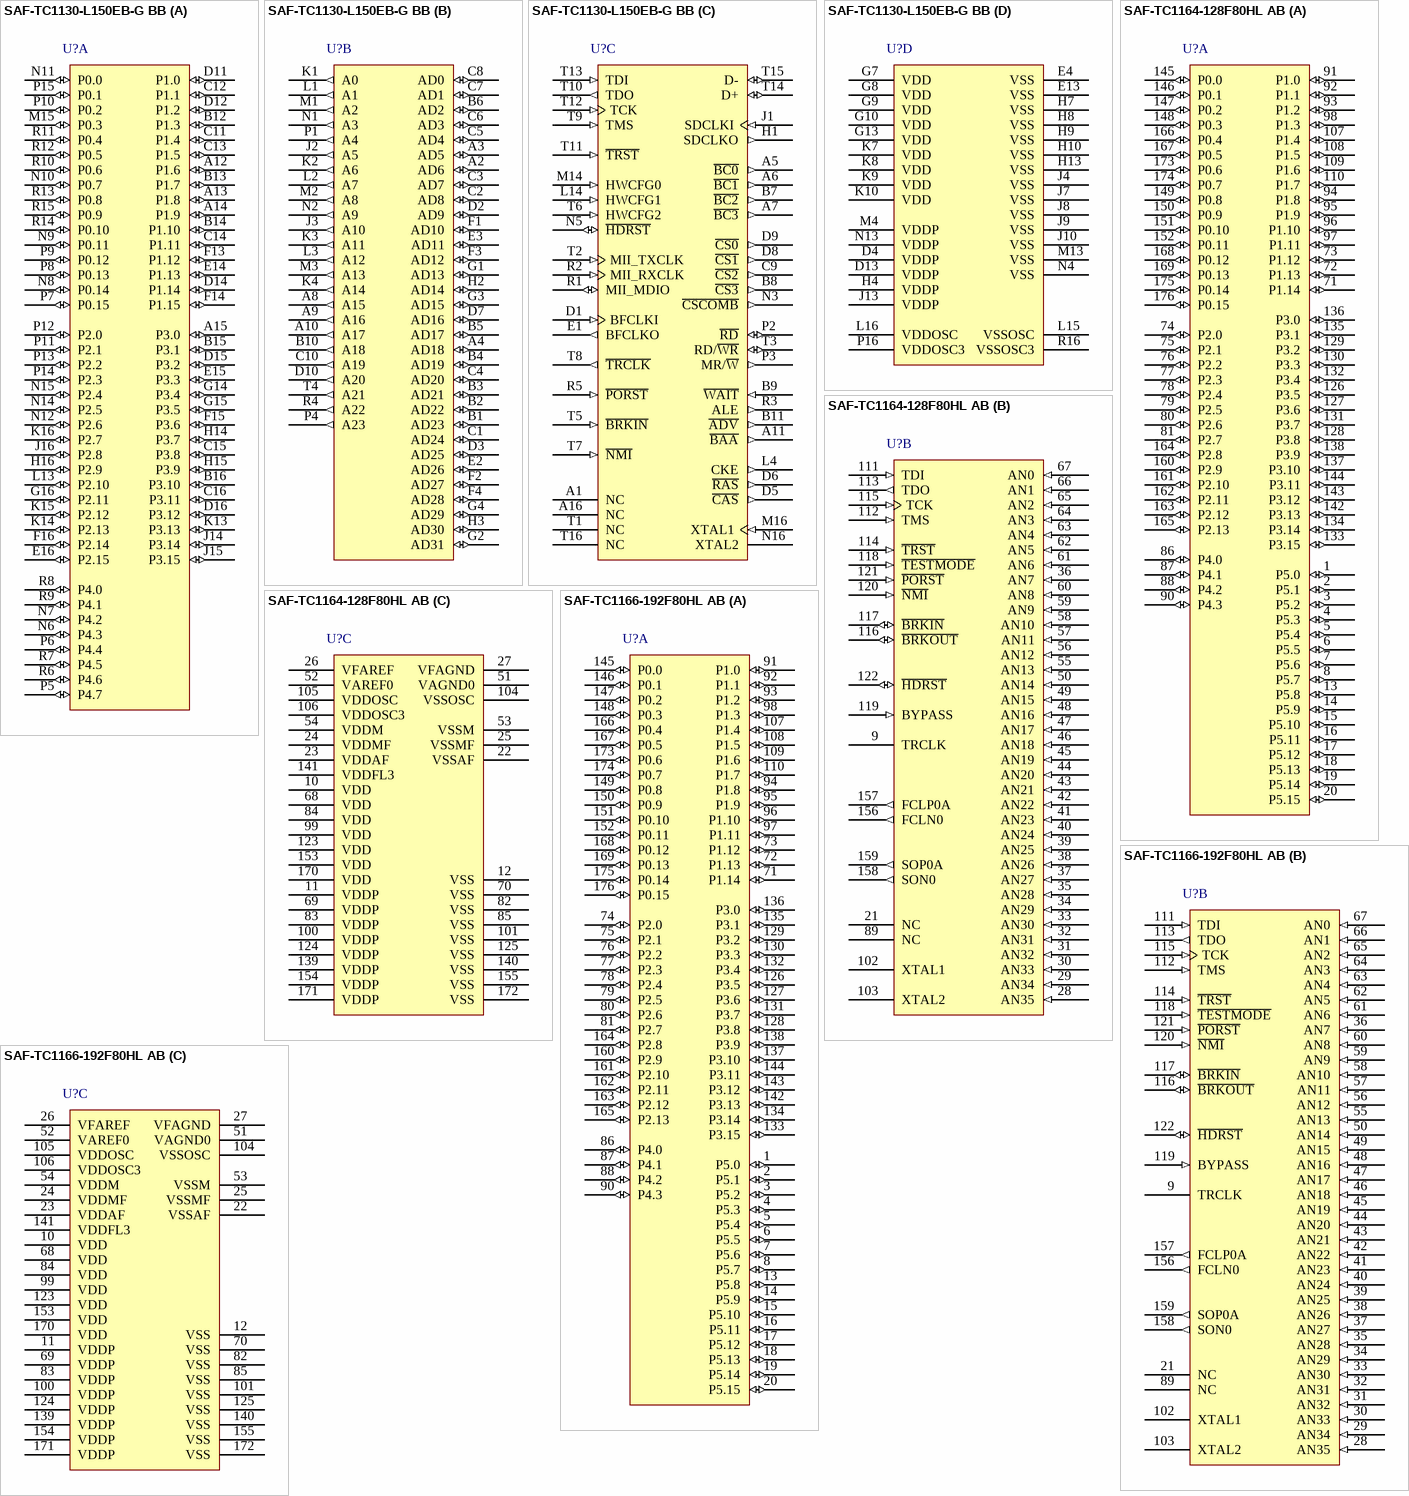
[diagram p14: symbols SAF-TC1130-L150EB-G BB to SAF-TC1166-192F80HL AB]

## SAF-TC1130-L150EB-G BB
designator U?
150 MHz TriCore MCU with 32 KByte Program Memory, 144 KByte SRAM, -40 to 85 degC, P-LBGA-208-2, Green; Manufacturer: Infineon; PartNumber: SAF-TC1130-L150EB-G BB; CAN Nodes: 4; Green: TRUE; Max Clock Frequency: 150 MHz; Packing: Tray; DatasheetVersion: Rev. 1.1; PackageVersion: Dec-08; PackageReference: P-LBGA-208-2; PackageDescription: 208-Ball Plastic Low Ball Grid Array Package, 17 x 17 mm Body, 1 mm Pitch; Supplier 1: Digi-Key; Supplier Part Number 1: SAF-TC1130-L150EB-GBBINTR-ND; Supplier 2: Digi-Key; Supplier Part Number 2: SAF-TC1130-L150EB-GBBINCT-ND; Halogen-free: TRUE; SRAM (incl. Cache): 144 KByte; Mounting Technology: Surface Mount; ComponentLink1Description: Manufacturer URL; ComponentLink1URL: http://www.infineon.com/; ComponentLink2Description: Datasheet; ComponentLink2URL: http://www.infineon.com/dgdl/TC1130_DS_V1+1.pdf?folderId=db3a304412b407950112b409ae7c0343&fileId=db3a304412b407950112b437cb8d68df; ComponentLink3Description: Package Specification; ComponentLink3URL: http://www.infineon.com/dgdl/TC1130_DS_V1+1.pdf?folderId=db3a304412b407950112b409ae7c0343&fileId=db3a304412b407950112b437cb8d68df
footprint INF-P-LBGA-208-2 (BGA, 208-Balls, Body 17x17mm, Pitch 1mm)
part A pins: A12 P1.6 (io), A13 P1.8 (io), A14 P1.9 (io), A15 P3.0 (io), B12 P1.3 (io), B13 P1.7 (io), B14 P1.10 (io), B15 P3.1 (io), B16 P3.10 (io), C11 P1.4 (io), C12 P1.1 (io), C13 P1.5 (io), C14 P1.11 (io), C15 P3.8 (io), C16 P3.11 (io), D11 P1.0 (io), D12 P1.2 (io), D14 P1.14 (io), D15 P3.2 (io), D16 P3.12 (io), E14 P1.13 (io), E15 P3.3 (io), E16 P2.15 (io), F13 P1.12 (io), F14 P1.15 (io), F15 P3.6 (io), F16 P2.14 (io), G14 P3.4 (io), G15 P3.5 (io), G16 P2.11 (io), H14 P3.7 (io), H15 P3.9 (io), H16 P2.9 (io), J14 P3.14 (io), J15 P3.15 (io), J16 P2.8 (io), K13 P3.13 (io), K14 P2.13 (io), K15 P2.12 (io), K16 P2.7 (io), L13 P2.10 (io), M15 P0.3 (io), N6 P4.3 (io), N7 P4.2 (io), N8 P0.14 (io), N9 P0.11 (io), N10 P0.7 (io), N11 P0.0 (io), N12 P2.6 (io), N14 P2.5 (io), N15 P2.4 (io), P5 P4.7 (io), P6 P4.4 (io), P7 P0.15 (io), P8 P0.13 (io), P9 P0.12 (io), P10 P0.2 (io), P11 P2.1 (io), P12 P2.0 (io), P13 P2.2 (io), P14 P2.3 (io), P15 P0.1 (io), R6 P4.6 (io), R7 P4.5 (io), R8 P4.0 (io), R9 P4.1 (io), R10 P0.6 (io), R11 P0.4 (io), R12 P0.5 (io), R13 P0.8 (io), R14 P0.10 (io), R15 P0.9 (io)
part B pins: A2 AD6 (io) "EBU Address/Data Bus Line 6", A3 AD5 (io) "EBU Address/Data Bus Line 5", A4 AD18 (io) "EBU Address/Data Bus Line 18", A8 A15 (out) "EBU Address Bus Line 15", A9 A16 (out) "EBU Address Bus Line 16", A10 A17 (out) "EBU Address Bus Line 17", B1 AD23 (io) "EBU Address/Data Bus Line 23", B2 AD22 (io) "EBU Address/Data Bus Line 22", B3 AD21 (io) "EBU Address/Data Bus Line 21", B4 AD19 (io) "EBU Address/Data Bus Line 19", B5 AD17 (io) "EBU Address/Data Bus Line 17", B6 AD2 (io) "EBU Address/Data Bus Line 2", B10 A18 (out) "EBU Address Bus Line 18", C1 AD24 (io) "EBU Address/Data Bus Line 24", C2 AD8 (io) "EBU Address/Data Bus Line 8", C3 AD7 (io) "EBU Address/Data Bus Line 7", C4 AD20 (io) "EBU Address/Data Bus Line 20", C5 AD4 (io) "EBU Address/Data Bus Line 4", C6 AD3 (io) "EBU Address/Data Bus Line 3", C7 AD1 (io) "EBU Address/Data Bus Line 1", C8 AD0 (io) "EBU Address/Data Bus Line 0", C10 A19 (out) "EBU Address Bus Line 19", D2 AD9 (io) "EBU Address/Data Bus Line 9", D3 AD25 (io) "EBU Address/Data Bus Line 25", D7 AD16 (io) "EBU Address/Data Bus Line 16", D10 A20 (out) "EBU Address Bus Line 20", E2 AD26 (io) "EBU Address/Data Bus Line 26", E3 AD11 (io) "EBU Address/Data Bus Line 11", F1 AD10 (io) "EBU Address/Data Bus Line 10", F2 AD27 (io) "EBU Address/Data Bus Line 27", F3 AD12 (io) "EBU Address/Data Bus Line 12", F4 AD28 (io) "EBU Address/Data Bus Line 28", G1 AD13 (io) "EBU Address/Data Bus Line 13", G2 AD31 (io) "EBU Address/Data Bus Line 31", G3 AD15 (io) "EBU Address/Data Bus Line 15", G4 AD29 (io) "EBU Address/Data Bus Line 29", H2 AD14 (io) "EBU Address/Data Bus Line 14", H3 AD30 (io) "EBU Address/Data Bus Line 30", J2 A5 (out) "EBU Address Bus Line 5", J3 A10 (out) "EBU Address Bus Line 10", K1 A0 (out) "EBU Address Bus Line 0", K2 A6 (out) "EBU Address Bus Line 6", K3 A11 (out) "EBU Address Bus Line 11", K4 A14 (out) "EBU Address Bus Line 14", L1 A1 (out) "EBU Address Bus Line 1", L2 A7 (out) "EBU Address Bus Line 7", L3 A12 (out) "EBU Address Bus Line 12", M1 A2 (out) "EBU Address Bus Line 2", M2 A8 (out) "EBU Address Bus Line 8", M3 A13 (out) "EBU Address Bus Line 13", N1 A3 (out) "EBU Address Bus Line 3", N2 A9 (out) "EBU Address Bus Line 9", P1 A4 (out) "EBU Address Bus Line 4", P4 A23 (out) "EBU Address Bus Line 23", R4 A22 (out) "EBU Address Bus Line 22", T4 A21 (out) "EBU Address Bus Line 21"
part C pins: A1 NC "Not Connected", A5 ~{BC0} (out) "EBU Byte Control Line 0", A6 ~{BC1} (out) "EBU Byte Control Line 1", A7 ~{BC3} (out) "EBU Byte Control Line 3", A11 ~{BAA} (out) "EBU Burst Address Advance Output For advancing address in a Burst Flash access", A16 NC "Not Connected", B7 ~{BC2} (out) "EBU Byte Control Line 2", B8 ~{CS3} (out) "EBU Chip Select Output Line 3", B9 ~{WAIT} (in) "EBU Wait Control Line", B11 ~{ADV} (out) "EBU Burst Flash Address Valid Output", C9 ~{CS2} (out) "EBU Chip Select Output Line 2", D1 BFCLKI (in) "Burst Flash Clock Input (Clock Feedback)", D5 ~{CAS} (out) "EBU SDRAM Column Address Strobe Output", D6 ~{RAS} (out) "EBU SDRAM Row Address Strobe Output", D8 ~{CS1} (out) "EBU Chip Select Output Line 1", D9 ~{CS0} (out) "EBU Chip Select Output Line 0", E1 BFCLKO (out) "Burst Flash Clock Output Accesses to Burst Flash devices are synchronized to this clock.", H1 SDCLKO (out) "SDRAM Clock Output Accesses to SDRAM devices are synchronized to this clock.", J1 SDCLKI (in) "SDRAM Clock Input (Clock Feedback)", L4 CKE (out) "EBU SDRAM Clock Enable Output", L14 HWCFG1 (in) "Hardware Configuration Inputs", M14 HWCFG0 (in) "Hardware Configuration Inputs", M16 XTAL1 (in) "Oscillator/PLL/Clock Generator Input/Output Pins", N3 ~{CSCOMB} (out) "EBU Chip Select Output for combination function(Overlay Memory and Global)", N5 ~{HDRST} (io) "Hardware Reset Input/Reset Indication Output", N16 XTAL2 "Oscillator/PLL/Clock Generator Input/Output Pins", P2 ~{RD} (io) "EBU Read Control Line Output in master mode Input in slave mode", P3 MR/~{W} (out) "EBU Motorola-style Read/Write Output", R1 MII_MDIO (io) "Ethernet Controller Management Data Input/Output", R2 MII_RXCLK (in) "Ethernet Controller Receive Clock", R3 ALE (out) "EBU Address Latch Enable Output", R5 ~{PORST} (in) "Power-on Reset Input", T1 NC "Not Connected", T2 MII_TXCLK (in) "Ethernet Controller Transmit Clock", T3 RD/~{WR} (io) "EBU Write Control Line Output in master mode Input in slave mode", T5 ~{BRKIN} (in) "OCDS Break Input", T6 HWCFG2 (in) "Hardware Configuration Inputs", T7 ~{NMI} (in) "Non-Maskable Interrupt Input", T8 ~{TRCLK} (out) "Trace Clock for OCDS_L2 Lines", T9 TMS (in) "JTAG Module State Machine Control Input", T10 TDO (out) "JTAG Module Serial Data Output", T11 ~{TRST} (in) "JTAG Module Reset/Enable Input", T12 TCK (in) "JTAG Module Clock Input", T13 TDI (in) "JTAG Module Serial Data Input", T14 D+ (io) "USB D+ Data Line", T15 D- (io) "USB D- Data Line", T16 NC "Not Connected"
part D pins: D4 VDDP (power) "Ports Power Supply (3.3 V)", D13 VDDP (power) "Ports Power Supply (3.3 V)", E4 VSS (power) "Ground", E13 VSS (power) "Ground", G7 VDD (power) "Core and Logic Power Supply (1.5 V)", G8 VDD (power) "Core and Logic Power Supply (1.5 V)", G9 VDD (power) "Core and Logic Power Supply (1.5 V)", G10 VDD (power) "Core and Logic Power Supply (1.5 V)", G13 VDD (power) "Core and Logic Power Supply (1.5 V)", H4 VDDP (power) "Ports Power Supply (3.3 V)", H7 VSS (power) "Ground", H8 VSS (power) "Ground", H9 VSS (power) "Ground", H10 VSS (power) "Ground", H13 VSS (power) "Ground", J4 VSS (power) "Ground", J7 VSS (power) "Ground", J8 VSS (power) "Ground", J9 VSS (power) "Ground", J10 VSS (power) "Ground", J13 VDDP (power) "Ports Power Supply (3.3 V)", K7 VDD (power) "Core and Logic Power Supply (1.5 V)", K8 VDD (power) "Core and Logic Power Supply (1.5 V)", K9 VDD (power) "Core and Logic Power Supply (1.5 V)", K10 VDD (power) "Core and Logic Power Supply (1.5 V)", L15 VSSOSC (power) "Main Oscillator Ground", L16 VDDOSC (power) "Main Oscillator Power Supply (1.5 V)", M4 VDDP (power) "Ports Power Supply (3.3 V)", M13 VSS (power) "Ground", N4 VSS (power) "Ground", N13 VDDP (power) "Ports Power Supply (3.3 V)", P16 VDDOSC3 (power) "Main Oscillator Power Supply (3.3 V)", R16 VSSOSC3 (power) "Main Oscillator Ground"